# Altium schematic symbol library VP1-2 OS.Schlib: 1 symbol
Pins are listed as number, name and electrical type; pins without a type are passive.

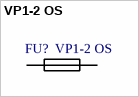
[diagram p0: symbol VP1-2 OS]

## VP1-2 OS
designator FU?
Назначение: Плавкий предохранитель; Наименование: ОС ВП1-2
footprint Fuse1
pins: 1, 2